# Altium footprint library 3mm_led_red.PcbLib: 1 footprints
Each footprint in its own frame and in the unit in brackets; x right, y up, seen from the top. Pads: shape width x height; smd on the part's side, far side on the other; paste and mask are expansions set on the pad; w line width, h text height; cw(c..) or ccw(c..) is an arc to the next point about the centre after c.
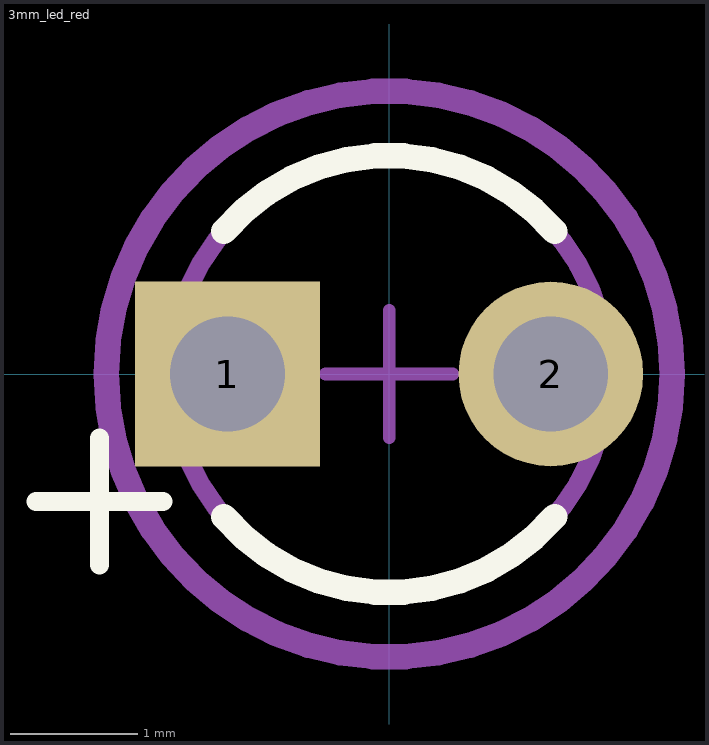
[diagram p0: the footprint, top view; thin cyan lines are the x and y axes]

## 3mm_led_red [mm]
pads (2):
  rect 1.45x1.45 hole 0.9 paste-2539.97 mask+0: 1(-1.27,0.001)
  round 1.45 hole 0.9 paste-2539.97 mask+0: 2(1.27,0.001)
Top Overlay:
  lines w0.15: -2.775,-0.999 -1.775,-0.999 ; -2.275,-1.5 -2.275,-0.5
  lines w0.2: -1.3,-1.119 ccw(c0,0) 1.3,-1.119 ; -1.3,1.121 cw(c0,0.003) 1.3,1.121
Top Assembly:
  text ".Designator" at 1.6,1.139 h1
Top 3D Body:
  circle w0.15: c0,0.001 r1.715
Top Courtyard:
  lines w0.2: -2.223,0.001 cw(c0,0.001) 2.223,0.001 cw(c0,0.001) -2.223,0.001
Top Component Center:
  lines w0.1: -0.5,0.001 0.5,0.001 ; 0,-0.499 0,0.501
3D body "Led_3mm_Vermelho_Transparente v1 leads.STEP": height 3.5, standoff -3.93, extent -1.6,-0.149 1.6,0.151
3D body "Led_3mm_Vermelho_Transparente v1 plastic.STEP": height 5.3, standoff 0, extent -1.925,-1.921 1.65,1.924